# EAGLE library part 500762-0481 (library 48Pin Molex 500762-0481)
CMC Header Right Angle 48 Circuits Molex 500762-0481, 48 Way 4 Row Black CMC Series Male Through Hole Header, Solder Termination Source: Datasheet <https://datasheet.datasheetarchive.com/originals/distributors/Datasheets_SAMA/7c53a4fb757944cf2c1fd37c9b3ea65a.pdf>
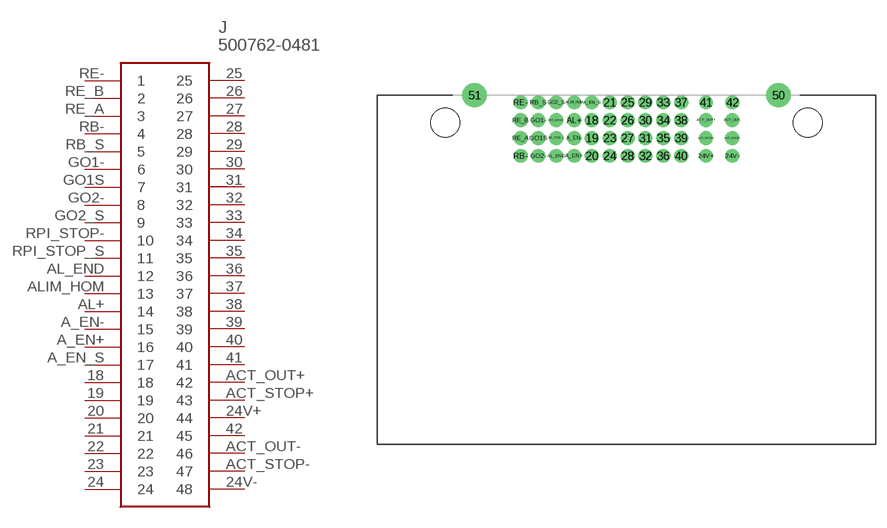
[diagram p0: symbol with the pads of 500762-0481; footprint 500762-0481]

Designator prefix J

## 500762-0481 (DESCRIPTION: CMC Header Right Angle 48 Circuits Molex 500762-0481, 48 Way 4 Row Black CMC Series Male Through Hole Header, Solder Termination; HEIGHT: mm; MANUFACTURER_NAME: Molex; MANUFACTURER_PART_NUMBER: 500762-0481; MOUSER_PART_NUMBER: 538-500762-0481; MOUSER_PRICE-STOCK: https://www.mouser.co.uk/ProductDetail/Molex/500762-0481?qs=xbccQsLEe0dknz6%252B2aFPdA%3D%3D)  [500762-0481]
18  18
19  19
20  20
21  21
22  22
23  23
24  24
24V+  44
24V-  48
25  25
26  26
27  27
28  28
29  29
30  30
31  31
32  32
33  33
34  34
35  35
36  36
37  37
38  38
39  39
40  40
41  41
42  45
A_EN+  16
A_EN-  15
A_EN_S  17
ACT_OUT+  42
ACT_OUT-  46
ACT_STOP+  43
ACT_STOP-  47
AL+  14
AL_END  12
ALIM_HOM  13
GO1-  6
GO1S  7
GO2-  8
GO2_S  9
RB-  4
RB_S  5
RE-  1
RE_A  3
RE_B  2
RPI_STOP-  10
RPI_STOP_S  11

## Footprint 500762-0481 (pad centres in mm)
500762-0481
drill 1.3 pad 1.9: 18 -4.85,-3.5; 19 -4.85,-6; 20 -4.85,-8.5; 21 -2.35,-1; 22 -2.35,-3.5; 23 -2.35,-6; 24 -2.35,-8.5; 24V+ 11.15,-8.5; 24V- 14.85,-8.5; 25 0.15,-1; 26 0.15,-3.5; 27 0.15,-6; 28 0.15,-8.5; 29 2.65,-1; 30 2.65,-3.5; 31 2.65,-6; 32 2.65,-8.5; 33 5.15,-1; 34 5.15,-3.5; 35 5.15,-6; 36 5.15,-8.5; 37 7.65,-1; 38 7.65,-3.5; 39 7.65,-6; 40 7.65,-8.5; 41 11.15,-1; 42 14.85,-1; A_EN+ -7.35,-8.5; A_EN- -7.35,-6; A_EN_S -4.85,-1; ACT_OUT+ 11.15,-3.5; ACT_OUT- 14.85,-3.5; ACT_STOP+ 11.15,-6; ACT_STOP- 14.85,-6; AL+ -7.35,-3.5; AL_END -9.85,-8.5; ALIM_HOM -7.35,-1; GO1- -12.35,-3.5; GO1S -12.35,-6; GO2- -12.35,-8.5; GO2_S -9.85,-1; RB- -14.85,-8.5; RB_S -12.35,-1; RE- -14.85,-1; RE_A -14.85,-6; RE_B -14.85,-3.5; RPI_STOP- -9.85,-3.5; RPI_STOP_S -9.85,-6
drill 2.3 pad 3.4: 50 21.3,0; 51 -21.3,0
hole 4.1 at 25.4,-3.85
hole 4.1 at -25.4,-3.85